# EAGLE library part PTDA_1.5_4-PH_5.0 (library OpenMotics)
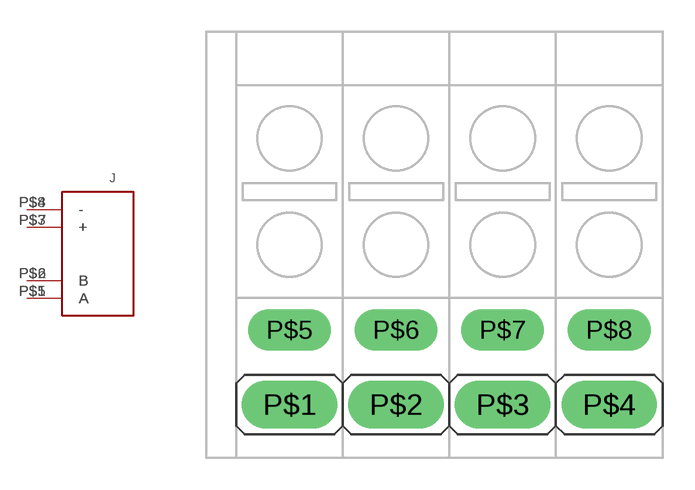
[diagram p19: symbol with the pads of PTDA_1.5_X-PH_5.0; footprint PTDA_1.5_X-PH_5.0]

Designator prefix J

## PTDA_1.5_4-PH_5.0  [PTDA_1.5_X-PH_5.0]
P$1  A
P$2  B
P$3  +
P$4  -
P$5  A
P$6  B
P$7  +
P$8  -

## Footprint PTDA_1.5_X-PH_5.0 (pad centres in mm)
drill 1.5 long: P$1 0,0; P$2 5,0; P$3 10,0; P$4 15,0
drill 1.3 long: P$5 0,3.5; P$6 5,3.5; P$7 10,3.5; P$8 15,3.5